# EAGLE library part IS62WV5128BLL-55HLI (library ISSI_By_element14_Batch_1)
STATIC RAM
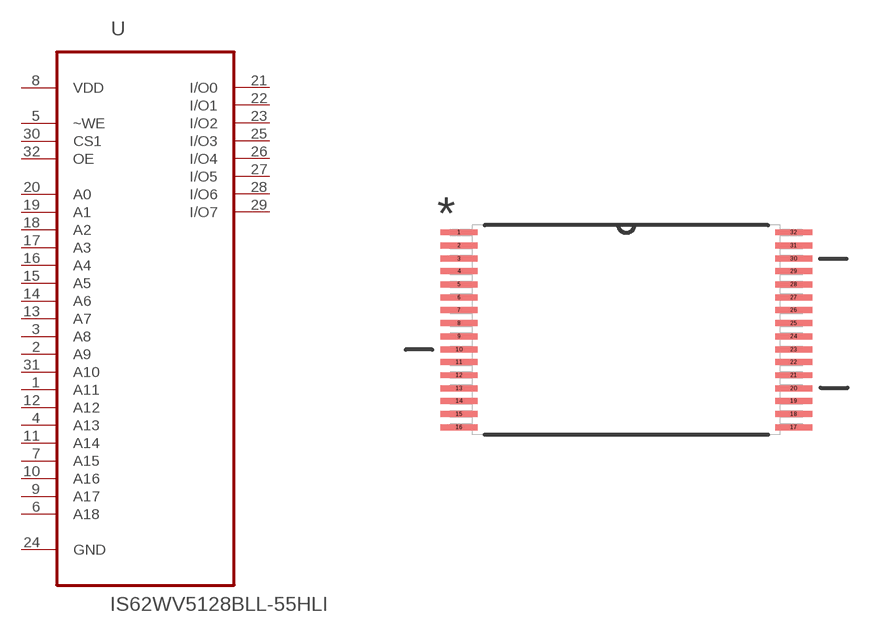
[diagram p5: symbol with the pads of SOIC50P1340X125-32N; footprint SOIC50P1340X125-32N]

Designator prefix U

## IS62WV5128BLL-55HLI (MPN: IS62WV5128BLL-55HLI; OC_FARNELL: 1869971; OC_NEWARK: 32T7411; PACKAGE: SOIC-32; SUPPLIER: INTEGRATED SILICON SOLUTION (ISSI))  [SOIC50P1340X125-32N]
1  A11  in
2  A9  in
3  A8  in
4  A13  in
5  ~WE  in
6  A18  in
7  A15  in
8  VDD  pwr
9  A17  in
10  A16  in
11  A14  in
12  A12  in
13  A7  in
14  A6  in
15  A5  in
16  A4  in
17  A3  in
18  A2  in
19  A1  in
20  A0  in
21  I/O0
22  I/O1
23  I/O2
24  GND
25  I/O3
26  I/O4
27  I/O5
28  I/O6
29  I/O7
30  CS1  in
31  A10  in
32  OE  in

## Footprint SOIC50P1340X125-32N (pad centres in mm)
smd 1.422 x 0.229: 1 -6.452,3.759; 2 -6.452,3.251; 3 -6.452,2.743; 4 -6.452,2.261; 5 -6.452,1.753; 6 -6.452,1.245; 7 -6.452,0.762; 8 -6.452,0.254; 9 -6.452,-0.254; 10 -6.452,-0.762; 11 -6.452,-1.245; 12 -6.452,-1.753; 13 -6.452,-2.261; 14 -6.452,-2.743; 15 -6.452,-3.251; 16 -6.452,-3.759; 17 6.452,-3.759; 18 6.452,-3.251; 19 6.452,-2.743; 20 6.452,-2.261; 21 6.452,-1.753; 22 6.452,-1.245; 23 6.452,-0.762; 24 6.452,-0.254; 25 6.452,0.254; 26 6.452,0.762; 27 6.452,1.245; 28 6.452,1.753; 29 6.452,2.261; 30 6.452,2.743; 31 6.452,3.251; 32 6.452,3.759